# Altium integrated library TPSM84338RCJR.IntLib: 1 symbol
Pins are listed as number, name and electrical type; pins without a type are passive.

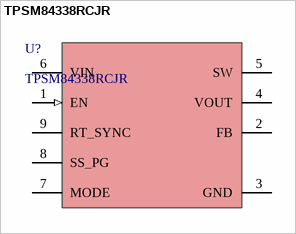
[diagram p0: symbol TPSM84338RCJR]

## TPSM84338RCJR
designator U?
3.8-V to 28-V Input, 3A, 200kHz-2.2MHz synchronous step-down power module 9-QFN-FCMOD -40 to 125; Manufacturer_Name: Texas Instruments; TYPE: TYPE; RefDes: RefDes; Copyright: Copyright (C) 2025 Ultra Librarian. All rights reserved.; Manufacturer_Part_Number: TPSM84338RCJR
footprint RCJ0009A-MFG
pins: 1 EN (in), 2 FB, 3 GND (power), 4 VOUT (power), 5 SW (power), 6 VIN (power), 7 MODE, 8 SS_PG, 9 RT_SYNC